# Altium footprint library Keebs.PcbLib: 219 footprints (part 3 of 14)
Each footprint in its own frame and in the unit in brackets; x right, y up, seen from the top. Pads: shape width x height; smd on the part's side, far side on the other; paste and mask are expansions set on the pad; w line width, h text height; cw(c..) or ccw(c..) is an arc to the next point about the centre after c.
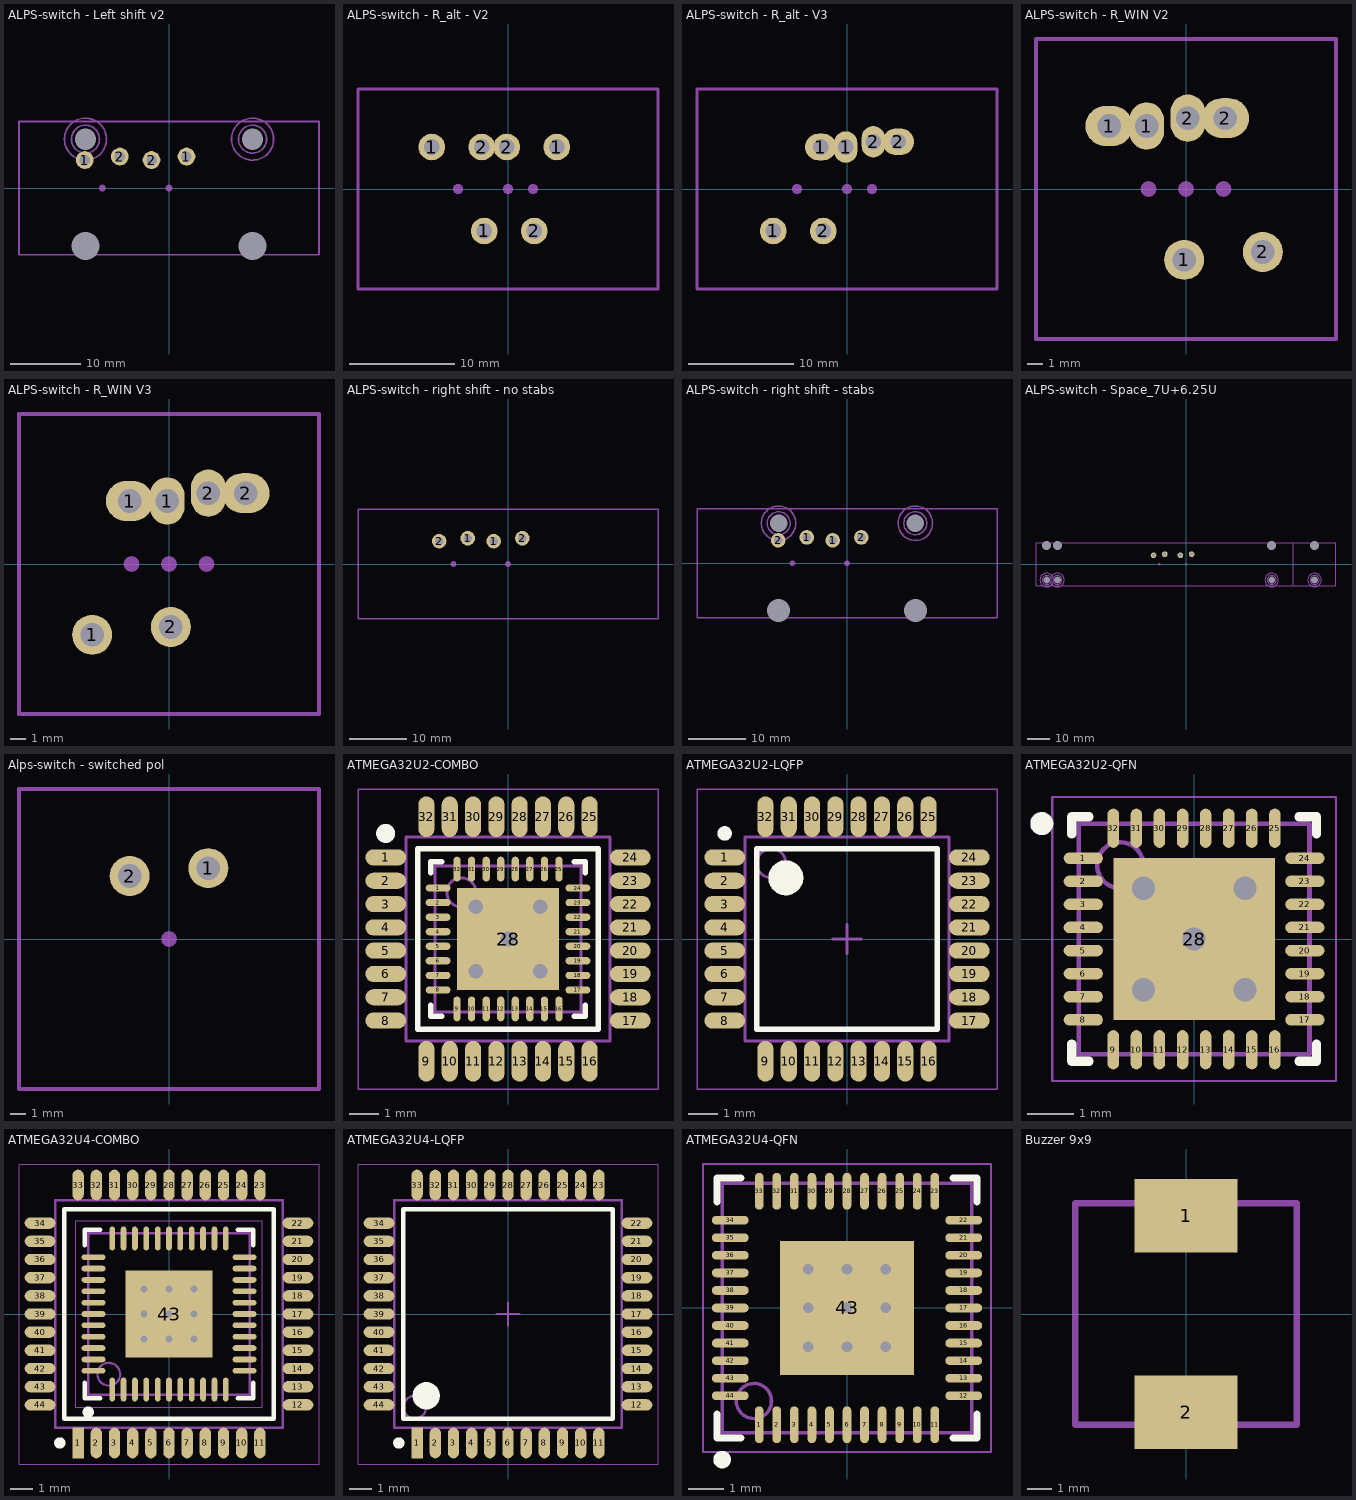
[diagram p2: the footprints below, top view; thin cyan lines are the x and y axes]

## ALPS-switch - Left shift v2 [mm]
pads (10):
  round 2.54 hole 1.5 mask-0.5: 1(-12.025,4) 1(2.5,4.5) 2(-7.025,4.5) 2(-2.5,4)
  round 1.524 hole 4 unplated: ""(-11.938,-8.255) ""(11.938,-8.255)
  round 1.524 hole 3.048 unplated: ""(-11.938,6.985) ""(11.938,6.985)
  round 1 on Mech13: ""(-9.525,0) ""(0,0)
Mechanical 13:
  lines w0.254: -21.431,-9.525 21.431,-9.525 21.431,9.525 -21.431,9.525 -21.431,-9.525
  text ".Designator" at -5.45,-3.925 h0.7
Mechanical 15:
  circle w0.254: c11.938,6.985 r2
  circle w0.254: c11.938,6.985 r3
  circle w0.254: c-11.938,6.985 r2
  circle w0.254: c-11.938,6.985 r3

## ALPS-switch - R_alt - V2 [mm]
pads (9):
  round 2.54 hole 1.5 mask-0.5: 1(-7.263,4) 1(-2.262,-4) 1(4.644,4) 2(-2.5,4) 2(-0.119,4) 2(2.5,-4)
  round 1 on Mech13: ""(-4.763,0) ""(0,0) ""(2.381,0)
Mechanical 13:
  lines w0.254: -14.287,-9.525 -14.287,9.525 14.287,9.525 14.287,-9.525 -14.287,-9.525
  text ".Designator" at -10.775,-6.175 h0.7

## ALPS-switch - R_alt - V3 [mm]
pads (9):
  round 2.54 hole 1.5 mask-0.5: 1(-7.025,-4) 2(-2.262,-4)
  oval 3x2.54 hole 1.5 mask-0.7: 1(-2.5,4) 2(4.881,4.5)
  oval 2.2x3 hole 1.5 mask-0.7: 1(-0.119,4) 2(2.5,4.5)
  round 1 on Mech13: ""(-4.763,0) ""(0,0) ""(2.381,0)
Mechanical 13:
  lines w0.254: -14.287,-9.525 -14.287,9.525 14.287,9.525 14.287,-9.525 -14.287,-9.525
  text ".Designator" at -10.775,-6.175 h0.7

## ALPS-switch - R_WIN V2 [mm]
pads (9):
  oval 3x2.54 hole 1.5 mask-0.7: 1(-4.881,4) 2(2.5,4.5)
  oval 2.2x3 hole 1.5 mask-0.7: 1(-2.5,4) 2(0.119,4.5)
  round 2.54 hole 1.5 mask-0.5: 1(-0.119,-4.5) 2(4.881,-4)
  round 1 on Mech13: ""(-2.381,0) ""(0,0) ""(2.381,0)
Mechanical 13:
  lines w0.254: -9.525,-9.525 9.525,-9.525 9.525,9.525 -9.525,9.525 -9.525,-9.525
  text ".Designator" at -4.225,-8.325 h0.7

## ALPS-switch - R_WIN V3 [mm]
pads (9):
  round 2.54 hole 1.5 mask-0.5: 1(-4.881,-4.5) 2(0.119,-4)
  oval 3x2.54 hole 1.5 mask-0.7: 1(-2.5,4) 2(4.881,4.5)
  oval 2.2x3 hole 1.5 mask-0.7: 1(-0.119,4) 2(2.5,4.5)
  round 1 on Mech13: ""(-2.381,0) ""(0,0) ""(2.381,0)
Mechanical 13:
  lines w0.254: -9.525,-9.525 -9.525,9.525 9.525,9.525 9.525,-9.525 -9.525,-9.525
  text ".Designator" at -4.225,-8.325 h0.7

## ALPS-switch - right shift - no stabs [mm]
pads (6):
  round 2.54 hole 1.5 mask-0.5: 1(-7.025,4.5) 1(-2.5,4) 2(-12.025,4) 2(2.5,4.5)
  round 1 on Mech13: ""(-9.525,0) ""(0,0)
Mechanical 13:
  lines w0.254: -26.194,-9.525 26.194,-9.525 26.194,9.525 -26.194,9.525 -26.194,-9.525
  text ".Designator" at -4.3,-5.55 h0.7

## ALPS-switch - right shift - stabs [mm]
pads (10):
  round 2.54 hole 1.5 mask-0.5: 1(-7.025,4.5) 1(-2.5,4) 2(-12.025,4) 2(2.5,4.5)
  round 1.524 hole 4 unplated: ""(-11.938,-8.255) ""(11.938,-8.255)
  round 1.524 hole 3.048 unplated: ""(-11.938,6.985) ""(11.938,6.985)
  round 1 on Mech13: ""(-9.525,0) ""(0,0)
Mechanical 13:
  lines w0.254: -26.194,-9.525 -26.194,9.525 26.194,9.525 26.194,-9.525 -26.194,-9.525
  text ".Designator" at -4.3,-5.55 h0.7
Mechanical 15:
  circle w0.254: c11.938,6.985 r2
  circle w0.254: c11.938,6.985 r3
  circle w0.254: c-11.938,6.985 r2
  circle w0.254: c-11.938,6.985 r3

## ALPS-switch - Space_7U+6.25U [mm]
pads (14):
  round 2.54 hole 1.5 mask-0.5: 1(-9.406,4.5) 1(-2.5,4) 2(-14.406,4) 2(2.5,4.5)
  round 1.524 hole 3.048 unplated: ""(-61.91,-6.985) ""(-57.15,-6.985) ""(38.09,-6.985) ""(57.15,-6.985)
  round 1.524 hole 4 unplated: ""(-61.91,8.255) ""(-57.15,8.255) ""(38.09,8.255) ""(57.15,8.255)
  round 1 on Mech13: ""(-11.906,0) ""(0,0)
Mechanical 13:
  lines w0.254: 47.621,-9.525 47.621,9.525 ; -66.675,-9.525 66.675,-9.525 66.675,9.525 -66.675,9.525 -66.675,-9.525
  text ".Designator" at 7.625,-2.4 h0.7
Mechanical 15:
  circle w0.254: c-61.91,-6.985 r2
  circle w0.254: c-61.91,-6.985 r3
  circle w0.254: c-57.15,-6.985 r2
  circle w0.254: c-57.15,-6.985 r3
  circle w0.254: c38.09,-6.985 r2
  circle w0.254: c38.09,-6.985 r3
  circle w0.254: c57.15,-6.985 r2
  circle w0.254: c57.15,-6.985 r3
  text "6.25U" at 46.265,-3.6 h1.52
  text "7U" at 65.831,-1.85 h1.52

## Alps-switch - switched pol [mm]
pads (3):
  round 2.54 hole 1.5 mask-0.5: 1(2.5,4.5) 2(-2.5,4)
  round 1 on Mech13: ""(0,0)
Mechanical 13:
  lines w0.254: -9.525,-9.525 9.525,-9.525 9.525,9.525 -9.525,9.525 -9.525,-9.525
  text ".Designator" at -3.575,-3.7 h0.7

## ATMEGA32U2-COMBO [mm]
height 1.6
pads (65):
  oval 1.4x0.55 smd: 1(-4.2,2.8) 2(-4.2,2) 3(-4.2,1.2) 4(-4.2,0.4) 5(-4.2,-0.4) 6(-4.2,-1.2) 7(-4.2,-2) 8(-4.2,-2.8) 17(4.2,-2.8) 18(4.2,-2) 19(4.2,-1.2) 20(4.2,-0.4) 21(4.2,0.4) 22(4.2,1.2) 23(4.2,2) 24(4.2,2.8)
  oval 0.85x0.25 smd: 1(-2.4,1.75) 2(-2.4,1.25) 3(-2.4,0.75) 4(-2.4,0.25) 5(-2.4,-0.25) 6(-2.4,-0.75) 7(-2.4,-1.25) 8(-2.4,-1.75) 17(2.4,-1.75) 18(2.4,-1.25) 19(2.4,-0.75) 20(2.4,-0.25) 21(2.4,0.25) 22(2.4,0.75) 23(2.4,1.25) 24(2.4,1.75)
  oval 0.55x1.4 smd: 9(-2.8,-4.2) 10(-2,-4.2) 11(-1.2,-4.2) 12(-0.4,-4.2) 13(0.4,-4.2) 14(1.2,-4.2) 15(2,-4.2) 16(2.8,-4.2) 25(2.8,4.2) 26(2,4.2) 27(1.2,4.2) 28(0.4,4.2) 29(-0.4,4.2) 30(-1.2,4.2) 31(-2,4.2) 32(-2.8,4.2)
  oval 0.25x0.85 smd: 9(-1.75,-2.4) 10(-1.25,-2.4) 11(-0.75,-2.4) 12(-0.25,-2.4) 13(0.25,-2.4) 14(0.75,-2.4) 15(1.25,-2.4) 16(1.75,-2.4) 25(1.75,2.4) 26(1.25,2.4) 27(0.75,2.4) 28(0.25,2.4) 29(-0.25,2.4) 30(-0.75,2.4) 31(-1.25,2.4) 32(-1.75,2.4)
  rect 3.5x3.5 smd: 28(0,0)
via 1.1,-1.1 diameter 1 hole 0.5
via -1.1,-1.1 diameter 1 hole 0.5
via 0,0 diameter 1 hole 0.5
via 1.1,1.1 diameter 1 hole 0.5
via -1.1,1.1 diameter 1 hole 0.5
Top Overlay:
  circle w0.4: c-4.2,3.625 r0.125
  lines w0.2: -2.65,-2.275 -2.65,-2.65 -2.275,-2.65 ; -2.65,2.275 -2.65,2.65 -2.275,2.65 ; 2.275,-2.65 2.65,-2.65 2.65,-2.275 ; 2.275,2.65 2.65,2.65 2.65,2.275 ; -3.1,-3.1 -3.1,3.1 3.1,3.1 3.1,-3.1 -3.1,-3.1
Mechanical 13:
  circle w0.1: c-1.6,1.6 r0.5
  lines w0.1: -3.5,-3.5 -3.5,3.5 3.5,3.5 3.5,-3.5 -3.5,-3.5 ; -2.5,-2.5 2.5,-2.5 2.5,2.5 -2.5,2.5 -2.5,-2.5
  text ".Designator" at -1.679,-0.15 h0.35
Mechanical 15:
  lines w0.05: -5.15,-5.15 -5.15,5.15 5.15,5.15 5.15,-5.15 -5.15,-5.15 ; -3.075,-3.075 3.075,-3.075 3.075,3.075 -3.075,3.075 -3.075,-3.075
  lines w0.1: -0.5,0 0.5,0 -0.5,0 ; 0,-0.5 0,0.5 0,-0.5
3D body "QFN50P500X500X100_HS-33N.step": height 1, standoff 0, extent -2.51,-2.51 2.51,2.51

## ATMEGA32U2-LQFP [mm]
height 1.6
pads (32):
  oval 1.4x0.55 smd: 1(-4.2,2.8) 2(-4.2,2) 3(-4.2,1.2) 4(-4.2,0.4) 5(-4.2,-0.4) 6(-4.2,-1.2) 7(-4.2,-2) 8(-4.2,-2.8) 17(4.2,-2.8) 18(4.2,-2) 19(4.2,-1.2) 20(4.2,-0.4) 21(4.2,0.4) 22(4.2,1.2) 23(4.2,2) 24(4.2,2.8)
  oval 0.55x1.4 smd: 9(-2.8,-4.2) 10(-2,-4.2) 11(-1.2,-4.2) 12(-0.4,-4.2) 13(0.4,-4.2) 14(1.2,-4.2) 15(2,-4.2) 16(2.8,-4.2) 25(2.8,4.2) 26(2,4.2) 27(1.2,4.2) 28(0.4,4.2) 29(-0.4,4.2) 30(-1.2,4.2) 31(-2,4.2) 32(-2.8,4.2)
Top Overlay:
  circle w0.6: c-2.1,2.1 r0.3
  circle w0.25: c-4.2,3.625 r0.125
  lines w0.2: -3.1,-3.1 3.1,-3.1 3.1,3.1 -3.1,3.1 -3.1,-3.1
Mechanical 13:
  circle w0.1: c-2.6,2.6 r0.5
  lines w0.1: -3.5,-3.5 3.5,-3.5 3.5,3.5 -3.5,3.5 -3.5,-3.5
  text ".Designator" at -1.679,-0.15 h0.35
Mechanical 15:
  lines w0.05: -5.15,-5.15 5.15,-5.15 5.15,5.15 -5.15,5.15 -5.15,-5.15
  lines w0.1: -0.5,0 0.5,0 ; 0,-0.5 0,0.5
3D body "ATMEGA32U2-LQFP.step": height 1.6, standoff 0, extent -4.5,-4.5 4.5,4.5

## ATMEGA32U2-QFN [mm] "QFN, 32-Leads, Body 5,00x5,00mm, Pitch 0,50mm, Thermal Pad 3,60x3,60mm, IPC Medium Density"
height 1
pads (33):
  oval 0.85x0.25 smd: 1(-2.4,1.75) 2(-2.4,1.25) 3(-2.4,0.75) 4(-2.4,0.25) 5(-2.4,-0.25) 6(-2.4,-0.75) 7(-2.4,-1.25) 8(-2.4,-1.75) 17(2.4,-1.75) 18(2.4,-1.25) 19(2.4,-0.75) 20(2.4,-0.25) 21(2.4,0.25) 22(2.4,0.75) 23(2.4,1.25) 24(2.4,1.75)
  oval 0.25x0.85 smd: 9(-1.75,-2.4) 10(-1.25,-2.4) 11(-0.75,-2.4) 12(-0.25,-2.4) 13(0.25,-2.4) 14(0.75,-2.4) 15(1.25,-2.4) 16(1.75,-2.4) 25(1.75,2.4) 26(1.25,2.4) 27(0.75,2.4) 28(0.25,2.4) 29(-0.25,2.4) 30(-0.75,2.4) 31(-1.25,2.4) 32(-1.75,2.4)
  rect 3.5x3.5 smd: 28(0,0)
via 1.1,-1.1 diameter 1 hole 0.5
via -1.1,-1.1 diameter 1 hole 0.5
via 0,0 diameter 1 hole 0.5
via 1.1,1.1 diameter 1 hole 0.5
via -1.1,1.1 diameter 1 hole 0.5
Top Overlay:
  circle w0.25: c-3.3,2.5 r0.125
  lines w0.2: -2.65,-2.275 -2.65,-2.65 -2.275,-2.65 ; -2.65,2.275 -2.65,2.65 -2.275,2.65 ; 2.275,-2.65 2.65,-2.65 2.65,-2.275 ; 2.275,2.65 2.65,2.65 2.65,2.275
Mechanical 13:
  circle w0.1: c-1.6,1.6 r0.5
  lines w0.1: -2.5,-2.5 -2.5,2.5 2.5,2.5 2.5,-2.5 -2.5,-2.5
  text ".Designator" at -1.941,-0.479 h0.35
Mechanical 15:
  lines w0.05: -3.075,-3.075 -3.075,3.075 3.075,3.075 3.075,-3.075 -3.075,-3.075
  lines w0.1: -0.5,0 0.5,0 ; 0,-0.5 0,0.5
3D body "QFN50P500X500X100_HS-33N.step": height 1, standoff 0, extent -2.51,-2.51 2.51,2.51

## ATMEGA32U4-COMBO [mm] "QFP, 44-Leads, Body 9,95x9,95mm, Pitch 0,80mm, IPC Medium Density"
height 2.45
pads (89):
  rect 0.5x1.35 smd: 1(-4,-5.675)
  oval 0.25x1.05 smd: 1(-2.5,-3.325) 2(-2,-3.325) 3(-1.5,-3.325) 4(-1,-3.325) 5(-0.5,-3.325) 6(0,-3.325) 7(0.5,-3.325) 8(1,-3.325) 9(1.5,-3.325) 10(2,-3.325) 11(2.5,-3.325) 23(2.5,3.325) 24(2,3.325) 25(1.5,3.325) 26(1,3.325) 27(0.5,3.325) 28(0,3.325) 29(-0.5,3.325) 30(-1,3.325) 31(-1.5,3.325) 32(-2,3.325) 33(-2.5,3.325)
  oval 0.5x1.35 smd: 2(-3.2,-5.675) 3(-2.4,-5.675) 4(-1.6,-5.675) 5(-0.8,-5.675) 6(0,-5.675) 7(0.8,-5.675) 8(1.6,-5.675) 9(2.4,-5.675) 10(3.2,-5.675) 11(4,-5.675) 23(4,5.675) 24(3.2,5.675) 25(2.4,5.675) 26(1.6,5.675) 27(0.8,5.675) 28(0,5.675) 29(-0.8,5.675) 30(-1.6,5.675) 31(-2.4,5.675) 32(-3.2,5.675) 33(-4,5.675)
  oval 1.05x0.25 smd: 12(3.325,-2.5) 13(3.325,-2) 14(3.325,-1.5) 15(3.325,-1) 16(3.325,-0.5) 17(3.325,0) 18(3.325,0.5) 19(3.325,1) 20(3.325,1.5) 21(3.325,2) 22(3.325,2.5) 34(-3.325,2.5) 35(-3.325,2) 36(-3.325,1.5) 37(-3.325,1) 38(-3.325,0.5) 39(-3.325,0) 40(-3.325,-0.5) 41(-3.325,-1) 42(-3.325,-1.5) 43(-3.325,-2) 44(-3.325,-2.5)
  oval 1.35x0.5 smd: 12(5.675,-4) 13(5.675,-3.2) 14(5.675,-2.4) 15(5.675,-1.6) 16(5.675,-0.8) 17(5.675,0) 18(5.675,0.8) 19(5.675,1.6) 20(5.675,2.4) 21(5.675,3.2) 22(5.675,4) 34(-5.675,4) 35(-5.675,3.2) 36(-5.675,2.4) 37(-5.675,1.6) 38(-5.675,0.8) 39(-5.675,0) 40(-5.675,-0.8) 41(-5.675,-1.6) 42(-5.675,-2.4) 43(-5.675,-3.2) 44(-5.675,-4)
  rect 3.81x3.81 smd paste-1000: 43(0,0)
via -1.1,-1.1 diameter 0.6 hole 0.3
via -1.1,0 diameter 0.6 hole 0.3
via -1.1,1.1 diameter 0.6 hole 0.3
via 0,-1.1 diameter 0.6 hole 0.3
via 0,0 diameter 0.6 hole 0.3
via 0,1.1 diameter 0.6 hole 0.3
via 1.1,-1.1 diameter 0.6 hole 0.3
via 1.1,0 diameter 0.6 hole 0.3
via 1.1,1.1 diameter 0.6 hole 0.3
Top Overlay:
  circle w0.25: c-3.556,-4.318 r0.125
  circle w0.25: c-4.8,-5.675 r0.125
  lines w0.2: -3.7,-3.025 -3.7,-3.7 -3.025,-3.7 ; -3.7,3.025 -3.7,3.7 -3.025,3.7 ; 3.025,-3.7 3.7,-3.7 3.7,-3.025 ; 3.025,3.7 3.7,3.7 3.7,3.025 ; -4.6,-4.6 -4.6,4.6 4.6,4.6 4.6,-4.6 -4.6,-4.6
Top Paste:
  rectangle: -1.778,-1.778 -0.254,-0.254
  region: -1.778,1.778 -1.778,0.254 -0.254,0.254 -0.254,1.778
  region: 1.778,1.778 0.254,1.778 0.254,0.254 1.778,0.254
  region: 1.778,-1.778 1.778,-0.254 0.254,-0.254 0.254,-1.778
Mechanical 13:
  circle w0.1: c-2.65,-2.65 r0.5
  lines w0.1: -5,-5 -5,5 5,5 5,-5 -5,-5 ; -3.55,-3.55 3.55,-3.55 3.55,3.55 -3.55,3.55 -3.55,-3.55
  text ".Designator" at 0.152,-2.345 h0.5
Mechanical 15:
  lines w0.05: -6.6,-6.6 -6.6,6.6 6.6,6.6 6.6,-6.6 -6.6,-6.6 ; -4.1,-4.1 4.1,-4.1 4.1,4.1 -4.1,4.1 -4.1,-4.1
  lines w0.1: -0.5,0 0.5,0 -0.5,0 ; 0,-0.5 0,0.5 0,-0.5
3D body "ATMEGA32U4-combo.step": height 1, standoff 0, extent -3.6,-3.6 3.6,3.6

## ATMEGA32U4-LQFP [mm] "QFP, 44-Leads, Body 9,95x9,95mm, Pitch 0,80mm, IPC Medium Density"
height 2.45
pads (44):
  rect 0.5x1.35 smd: 1(-4,-5.675)
  oval 0.5x1.35 smd: 2(-3.2,-5.675) 3(-2.4,-5.675) 4(-1.6,-5.675) 5(-0.8,-5.675) 6(0,-5.675) 7(0.8,-5.675) 8(1.6,-5.675) 9(2.4,-5.675) 10(3.2,-5.675) 11(4,-5.675) 23(4,5.675) 24(3.2,5.675) 25(2.4,5.675) 26(1.6,5.675) 27(0.8,5.675) 28(0,5.675) 29(-0.8,5.675) 30(-1.6,5.675) 31(-2.4,5.675) 32(-3.2,5.675) 33(-4,5.675)
  oval 1.35x0.5 smd: 12(5.675,-4) 13(5.675,-3.2) 14(5.675,-2.4) 15(5.675,-1.6) 16(5.675,-0.8) 17(5.675,0) 18(5.675,0.8) 19(5.675,1.6) 20(5.675,2.4) 21(5.675,3.2) 22(5.675,4) 34(-5.675,4) 35(-5.675,3.2) 36(-5.675,2.4) 37(-5.675,1.6) 38(-5.675,0.8) 39(-5.675,0) 40(-5.675,-0.8) 41(-5.675,-1.6) 42(-5.675,-2.4) 43(-5.675,-3.2) 44(-5.675,-4)
Top Overlay:
  circle w0.6: c-3.6,-3.6 r0.3
  circle w0.25: c-4.8,-5.675 r0.125
  lines w0.2: -4.6,-4.6 -4.6,4.6 4.6,4.6 4.6,-4.6 -4.6,-4.6
Mechanical 13:
  circle w0.1: c-4.1,-4.1 r0.5
  lines w0.1: -5,-5 -5,5 5,5 5,-5 -5,-5
  text ".Designator" at 0.15,-1.425 h0.35
Mechanical 15:
  lines w0.05: -6.6,-6.6 -6.6,6.6 6.6,6.6 6.6,-6.6 -6.6,-6.6
  lines w0.1: -0.5,0 0.5,0 ; 0,-0.5 0,0.5
3D body "tqfp-44.STEP": height 1, standoff -0.11, extent -6,-6 6,6

## ATMEGA32U4-QFN [mm]
height 1
pads (45):
  oval 0.25x1.05 smd: 1(-2.5,-3.325) 2(-2,-3.325) 3(-1.5,-3.325) 4(-1,-3.325) 5(-0.5,-3.325) 6(0,-3.325) 7(0.5,-3.325) 8(1,-3.325) 9(1.5,-3.325) 10(2,-3.325) 11(2.5,-3.325) 23(2.5,3.325) 24(2,3.325) 25(1.5,3.325) 26(1,3.325) 27(0.5,3.325) 28(0,3.325) 29(-0.5,3.325) 30(-1,3.325) 31(-1.5,3.325) 32(-2,3.325) 33(-2.5,3.325)
  oval 1.05x0.25 smd: 12(3.325,-2.5) 13(3.325,-2) 14(3.325,-1.5) 15(3.325,-1) 16(3.325,-0.5) 17(3.325,0) 18(3.325,0.5) 19(3.325,1) 20(3.325,1.5) 21(3.325,2) 22(3.325,2.5) 34(-3.325,2.5) 35(-3.325,2) 36(-3.325,1.5) 37(-3.325,1) 38(-3.325,0.5) 39(-3.325,0) 40(-3.325,-0.5) 41(-3.325,-1) 42(-3.325,-1.5) 43(-3.325,-2) 44(-3.325,-2.5)
  rect 3.81x3.81 smd paste-1000: 43(0,0)
via 1.1,1.1 diameter 0.6 hole 0.3
via 1.1,0 diameter 0.6 hole 0.3
via 1.1,-1.1 diameter 0.6 hole 0.3
via 0,1.1 diameter 0.6 hole 0.3
via 0,0 diameter 0.6 hole 0.3
via 0,-1.1 diameter 0.6 hole 0.3
via -1.1,1.1 diameter 0.6 hole 0.3
via -1.1,0 diameter 0.6 hole 0.3
via -1.1,-1.1 diameter 0.6 hole 0.3
Top Overlay:
  circle w0.25: c-3.556,-4.318 r0.125
  lines w0.2: -3.7,-3.025 -3.7,-3.7 -3.025,-3.7 ; -3.7,3.025 -3.7,3.7 -3.025,3.7 ; 3.025,-3.7 3.7,-3.7 3.7,-3.025 ; 3.025,3.7 3.7,3.7 3.7,3.025
Top Paste:
  region: 1.778,-1.778 1.778,-0.254 0.254,-0.254 0.254,-1.778
  region: 1.778,1.778 0.254,1.778 0.254,0.254 1.778,0.254
  region: -1.778,1.778 -1.778,0.254 -0.254,0.254 -0.254,1.778
  rectangle: -1.778,-1.778 -0.254,-0.254
Mechanical 13:
  circle w0.1: c-2.65,-2.65 r0.5
  lines w0.1: -3.55,-3.55 -3.55,3.55 3.55,3.55 3.55,-3.55 -3.55,-3.55
  text ".Designator" at 0.152,-2.345 h0.5
Mechanical 15:
  lines w0.05: -4.1,-4.1 -4.1,4.1 4.1,4.1 4.1,-4.1 -4.1,-4.1
  lines w0.1: -0.5,0 0.5,0 ; 0,-0.5 0,0.5
3D body "ATMEGA32U4-combo.step": height 1, standoff 0, extent -3.6,-3.6 3.6,3.6

## Buzzer 9x9 [mm]
pads (2):
  rect 4.2x3 smd: 1(0,4) 2(0,-4)
Mechanical 13:
  lines w0.254: -4.5,-4.5 4.5,-4.5 4.5,4.5 -4.5,4.5 -4.5,-4.5
  text ".Designator" at -1.917,-0.015 h0.5
3D body "CUI_CPT-9019S-SMT.step": height 1.91, standoff 0, extent -4.551,-4.643 4.449,4.597